# EAGLE library part P82B715 (library KARIBOUS)
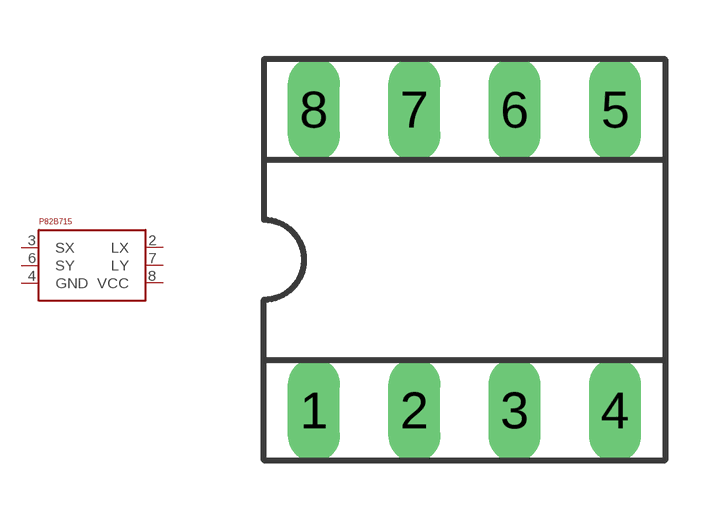
[diagram p0: symbol with the pads of SOCKET-08; footprint SOCKET-08]

Designator prefix -

## P82B715  [SOCKET-08]
2  LX
3  SX
4  GND
6  SY
7  LY
8  VCC

## Footprint SOCKET-08 (pad centres in mm)
Dual In Line Socket
drill 0.813 long: 1 -3.81,-3.81; 2 -1.27,-3.81; 3 1.27,-3.81; 4 3.81,-3.81; 5 3.81,3.81; 6 1.27,3.81; 7 -1.27,3.81; 8 -3.81,3.81